# EAGLE library part TRAFO-TI-04423X-ME-EC (library 1A-meinLib)
Ringkerntransformator (Trafo) 225VA, gekappselt, Noratel, Toroid. Schuricht
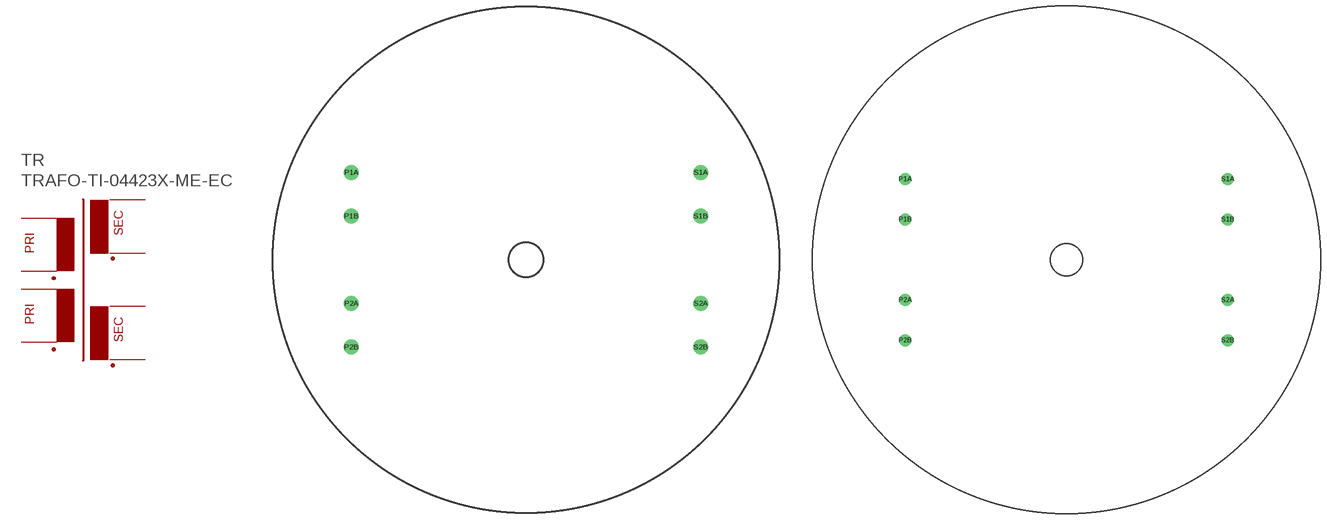
[diagram p113: symbol with the pads of TRAFO-TI-044234-ME-EC; footprints TRAFO-TI-044234-ME-EC, TRAFO-TI044238X-ME-EC]

Designator prefix TR

## TRAFO-TI-04423X-ME-EC  [TRAFO-TI-044234-ME-EC]
P1A  P1A  pas
P1B  P1B  pas
P2A  P2A  pas
P2B  P2B  pas
S1A  S1A  pas
S1B  S1B  pas
S2A  S2A  pas
S2B  S2B  pas

## TRAFO-TI-04423X-ME-ECB  [TRAFO-TI044238X-ME-EC]
Pads as for TRAFO-TI-044234-ME-EC

## TRAFO-TI-04423X-ME-ECC  [TRAFO-TI-04424X-ME-EC]
Pads as for TRAFO-TI-044234-ME-EC

## Footprint TRAFO-TI-044234-ME-EC (pad centres in mm)
Ringkerntransformator (Trafo) 225VA, gekappselt, Noratel, Toroid. Schuricht
drill 2.4 round: P1A -40,20; P1B -40,10; P2A -40,-10; P2B -40,-20; S1A 40,20; S1B 40,10; S2A 40,-10; S2B 40,-20

## Footprint TRAFO-TI044238X-ME-EC (pad centres in mm)
Ringkerntransformator 300VA, TI-044238-ME-EC, 2 x 25 126 66 3,5 ,AWG14, Toriod/NORATEL
drill 2 round: P1A -40,20; P1B -40,10; P2A -40,-10; P2B -40,-20; S1A 40,20; S1B 40,10; S2A 40,-10; S2B 40,-20

## Footprint TRAFO-TI-04424X-ME-EC (pad centres in mm)
General Purpose Toroidal Transformers, 500VA, 2x25V..2x55V, 5kg, NORATEL
drill 2.4 round: P1A -40,20; P1B -40,10; P2A -40,-10; P2B -40,-20; S1A 40,20; S1B 40,10; S2A 40,-10; S2B 40,-20